# EAGLE library part FT810Q-T (library clackboard_lib)
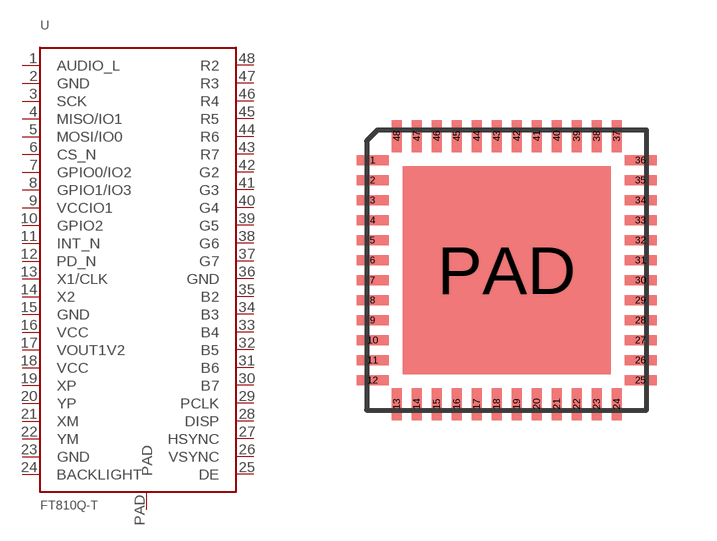
[diagram p1: symbol with the pads of FT810Q-T; footprint FT810Q-T]

Designator prefix U

## FT810Q-T  [FT810Q-T]
1  AUDIO_L
2  GND  pwr
3  SCK
4  MISO/IO1
5  MOSI/IO0
6  CS_N
7  GPIO0/IO2
8  GPIO1/IO3
9  VCCIO1  pwr
10  GPIO2
11  INT_N
12  PD_N
13  X1/CLK
14  X2
15  GND  pwr
16  VCC  pwr
17  VOUT1V2  pwr
18  VCC  pwr
19  XP
20  YP
21  XM
22  YM
23  GND  pwr
24  BACKLIGHT
25  DE
26  VSYNC
27  HSYNC
28  DISP
29  PCLK
30  B7
31  B6
32  B5
33  B4
34  B3
35  B2
36  GND  pwr
37  G7
38  G6
39  G5
40  G4
41  G3
42  G2
43  R7
44  R6
45  R5
46  R4
47  R3
48  R2
PAD  PAD  pwr

## Footprint FT810Q-T (pad centres in mm)
smd 0.8 x 0.25: 1 -3.35,2.75; 2 -3.35,2.25; 3 -3.35,1.75; 4 -3.35,1.25; 5 -3.35,0.75; 6 -3.35,0.25; 7 -3.35,-0.25; 8 -3.35,-0.75; 9 -3.35,-1.25; 10 -3.35,-1.75; 11 -3.35,-2.25; 12 -3.35,-2.75; 25 3.35,-2.75; 26 3.35,-2.25; 27 3.35,-1.75; 28 3.35,-1.25; 29 3.35,-0.75; 30 3.35,-0.25; 31 3.35,0.25; 32 3.35,0.75; 33 3.35,1.25; 34 3.35,1.75; 35 3.35,2.25; 36 3.35,2.75
smd 0.25 x 0.8: 13 -2.75,-3.35; 14 -2.25,-3.35; 15 -1.75,-3.35; 16 -1.25,-3.35; 17 -0.75,-3.35; 18 -0.25,-3.35; 19 0.25,-3.35; 20 0.75,-3.35; 21 1.25,-3.35; 22 1.75,-3.35; 23 2.25,-3.35; 24 2.75,-3.35; 37 2.75,3.35; 38 2.25,3.35; 39 1.75,3.35; 40 1.25,3.35; 41 0.75,3.35; 42 0.25,3.35; 43 -0.25,3.35; 44 -0.75,3.35; 45 -1.25,3.35; 46 -1.75,3.35; 47 -2.25,3.35; 48 -2.75,3.35
smd 5.2 x 5.2: PAD 0,0